# EAGLE library part SC560CULTRT (library LDO)
IC REG LINEAR POS ADJ 8MLPQ-UT Manufacturer's datasheet <https://semtech.my.salesforce.com/sfc/p/#E0000000JelG/a/44000000MCEa/gVd_Cgwd1H7KGfhFKTQJ4yv40EfTQkg6qafMzLVZpSo>
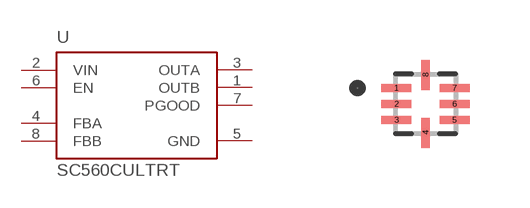
[diagram p9: symbol with the pads of 8-MLPQ-UT; footprint 8-MLPQ-UT]

Designator prefix U

## SC560CULTRT (CREATED_BY: PCBLayout.com; DIGIKEY_PARTNO: SC560CULCT-ND; MANUFACTURER: Semtech Corporation; MPN: SC560CULTRT; PACKAGE: 8-MLPQ-UT)  [8-MLPQ-UT]
1  OUTB  out
2  VIN  in
3  OUTA  out
4  FBA  pas
5  GND  pwr
6  EN  in
7  PGOOD  out
8  FBB  pas

## Footprint 8-MLPQ-UT (pad centres in mm)
smd 0.75 x 0.2: 1 -0.725,0.4; 2 -0.725,0; 3 -0.725,-0.4; 5 0.725,-0.4; 6 0.725,0; 7 0.725,0.4
smd 0.2 x 0.75: 4 0,-0.725; 8 0,0.725